# EAGLE library part CON_MEGAFIT_RA_2X4_MOLEX_0768250008 (library WCSMain)
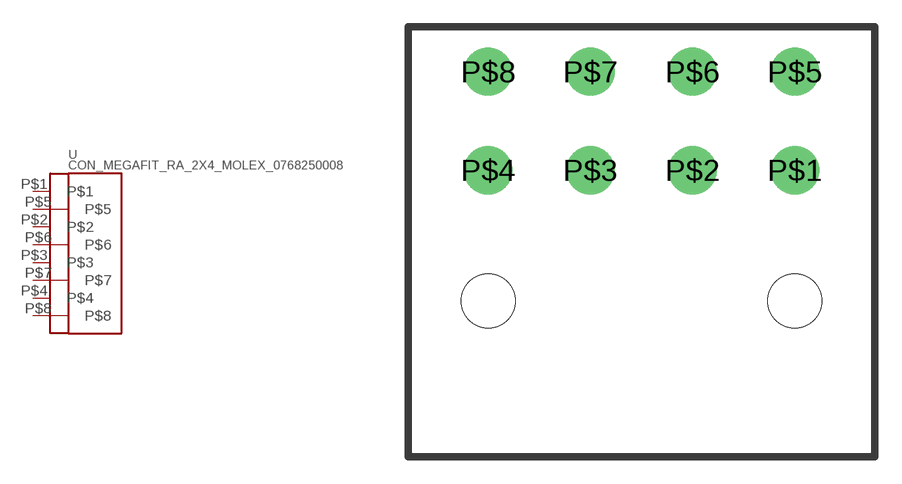
[diagram p28: symbol with the pads of CON_MEGAFIT8_RA_MOLEX_0768250008; footprint CON_MEGAFIT8_RA_MOLEX_0768250008]

Designator prefix -

## CON_MEGAFIT_RA_2X4_MOLEX_0768250008  [CON_MEGAFIT8_RA_MOLEX_0768250008]
P$1  P$1  pas
P$2  P$2  pas
P$3  P$3  pas
P$4  P$4  pas
P$5  P$5  pas
P$6  P$6  pas
P$7  P$7  pas
P$8  P$8  pas

## Footprint CON_MEGAFIT8_RA_MOLEX_0768250008 (pad centres in mm)
drill 1.8: P$1 8.55,0; P$2 2.85,0; P$3 -2.85,0; P$4 -8.55,0; P$5 8.55,5.5; P$6 2.85,5.5; P$7 -2.85,5.5; P$8 -8.55,5.5
hole 3 at -8.55,-7.3
hole 3 at 8.55,-7.3